# Altium footprint library 640456-3.PcbLib: 1 footprints
Each footprint in its own frame and in the unit in brackets; x right, y up, seen from the top. Pads: shape width x height; smd on the part's side, far side on the other; paste and mask are expansions set on the pad; w line width, h text height; cw(c..) or ccw(c..) is an arc to the next point about the centre after c.
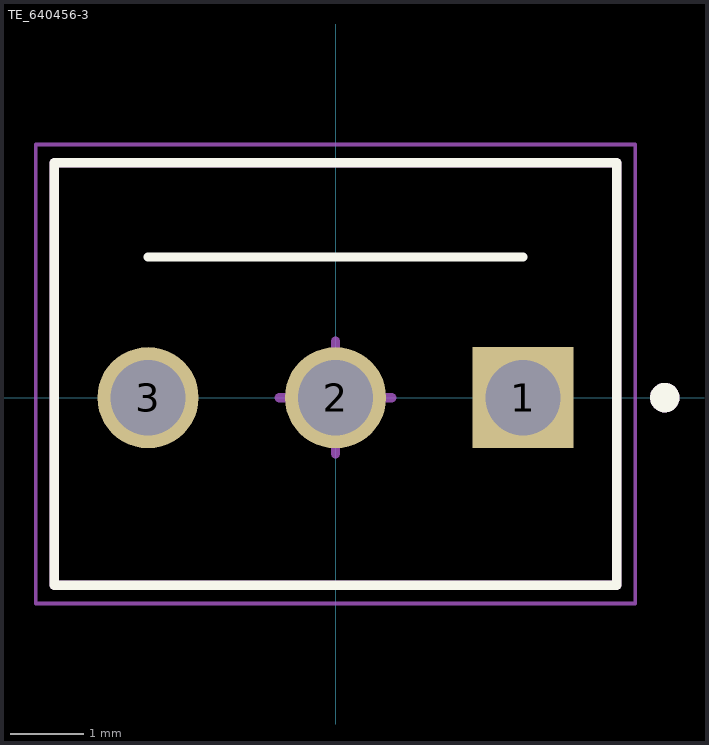
[diagram p0: the footprint, top view; thin cyan lines are the x and y axes]

## TE_640456-3 [mm]
pads (3):
  rect 1.37x1.37 hole 1.02: 1(2.54,0)
  round 1.37 hole 1.02: 2(0,0) 3(-2.54,0)
Top Overlay:
  circle w0.2: c4.46,0 r0.1
  lines w0.127: -2.54,1.905 2.54,1.905 ; -3.81,-2.54 -3.81,3.18 3.81,3.18 3.81,-2.54 -3.81,-2.54
Top Designator:
  text ".Designator" at -7.33,-0.188 h1.52
Mechanical 13:
  circle w0.2: c4.46,0 r0.1
  lines w0.127: -3.81,-2.54 -3.81,3.18 ; -3.81,-2.54 3.81,-2.54 ; -3.81,-2.54 -3.81,3.18 ; -3.81,3.18 3.81,3.18 ; -3.81,3.18 3.81,3.18 ; 3.81,-2.54 3.81,3.18 ; 3.81,-2.54 3.81,3.18
Mechanical 15:
  lines w0.05: -4.06,-2.79 -4.06,3.43 4.06,3.43 4.06,-2.79 -4.06,-2.79
  lines w0.127: -0.762,0 0.762,0 0,0 ; 0,0.635 0,0 ; 0,0.762 0,-0.762 0,0
3D body "c-640456-3-aa-3d.stp": height 10.09, standoff -3.5, extent -3.81,-2.667 3.81,3.175